# EAGLE library part OLED-HEADER (library uo_C_SE_Library)
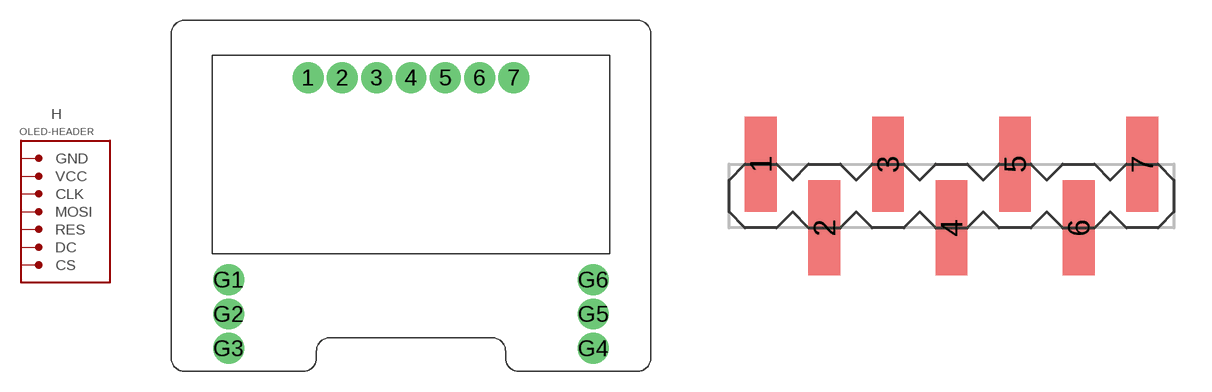
[diagram p5: symbol with the pads of DISPLAY-MODULE; footprints DISPLAY-MODULE, SMD-0.1-1X7]

Designator prefix H

## OLED-HEADER-MODULE (MANUFACTURERPARTNUMBER: TD-OCSE-B-DM)  [DISPLAY-MODULE]
1  GND
2  VCC
3  CLK
4  MOSI
5  RES
6  DC
7  CS
G1  GND
G2  GND
G3  GND
G4  GND
G5  GND
G6  GND

## OLED-HEADER-BASIC  [SMD-0.1-1X7]
1  GND
2  VCC
3  CLK
4  MOSI
5  RES
6  DC
7  CS

## Footprint DISPLAY-MODULE (pad centres in mm)
drill 1.524 pad 2.286: 1 -7.62,5.7; 2 -5.08,5.7; 3 -2.54,5.7; 4 0,5.7; 5 2.54,5.7; 6 5.08,5.7; 7 7.62,5.7; G1 -13.5,-9.26; G2 -13.5,-11.8; G3 -13.5,-14.34; G4 13.5,-14.34; G5 13.5,-11.8; G6 13.5,-9.26

## Footprint SMD-0.1-1X7 (pad centres in mm)
smd 1.27 x 3.81: 1 -7.62,1.27; 2 -5.08,-1.27; 3 -2.54,1.27; 4 0,-1.27; 5 2.54,1.27; 6 5.08,-1.27; 7 7.62,1.27